# EAGLE library part MAX4542 (library maxim)
ANALOG SWITCH
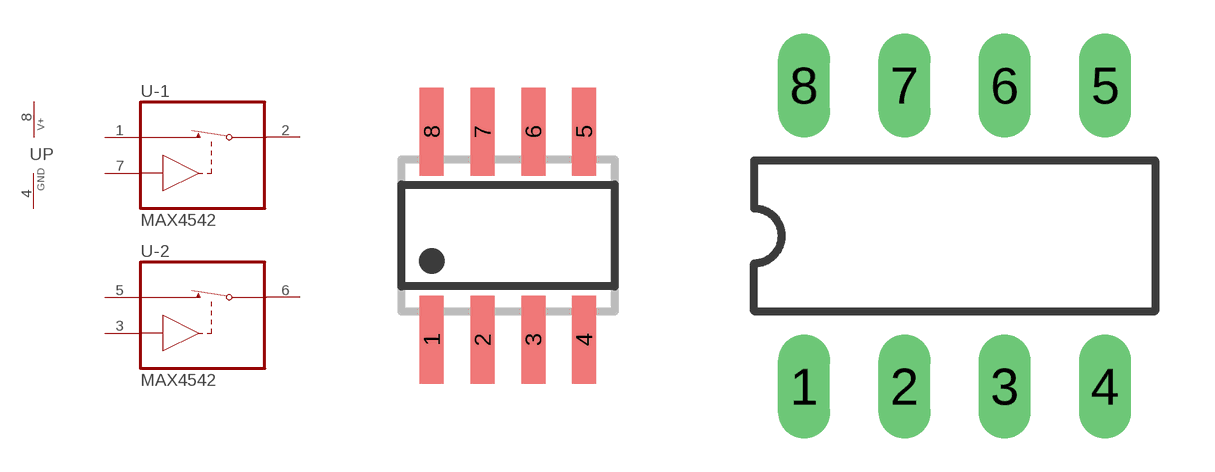
[diagram p392: symbol with the pads of SO08; footprints SO08, DIL08]

Designator prefix U; gates -1=MAX45XX-NC -2=MAX45XX-NC P=PWR+GND

## MAX4542CSA  [SO08]
1  -1:NC  pas
2  -1:COM  pas
3  -2:IN  in
4  P:GND  pwr
5  -2:NC  pas
6  -2:COM  pas
7  -1:IN  in
8  P:V+  pwr

## MAX4542CPA  [DIL08]
Pads as for SO08

## Footprint SO08 (pad centres in mm)
SMALL OUTLINE INTEGRATED CIRCUIT body 3.9 mm/JEDEC MS-012AA
smd 0.6 x 2.2: 1 -1.905,-2.6; 2 -0.635,-2.6; 3 0.635,-2.6; 4 1.905,-2.6; 5 1.905,2.6; 6 0.635,2.6; 7 -0.635,2.6; 8 -1.905,2.6

## Footprint DIL08 (pad centres in mm)
Dual In Line Package
drill 0.813 long: 1 -3.81,-3.81; 2 -1.27,-3.81; 3 1.27,-3.81; 4 3.81,-3.81; 5 3.81,3.81; 6 1.27,3.81; 7 -1.27,3.81; 8 -3.81,3.81